# EAGLE library part FST3253MTCX (library FST3253MTCX)
IC, Fairchild, FST3253MTCX Fairchild Semiconductor FST3253MTCX, Multiplexer/Demultiplexer Dual 4:1 Multiplexer, 4 5.5 V, 16-Pin TSSOP Source: Datasheet <https://componentsearchengine.com/Datasheets/2/FST3253MTCX.pdf>
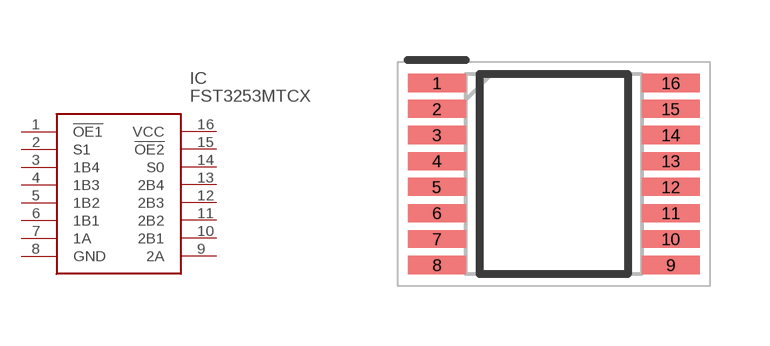
[diagram p0: symbol with the pads of SOP65P640X110-16N; footprint SOP65P640X110-16N]

Designator prefix IC

## FST3253MTCX (Arrow_Part_Number: FST3253MTCX; Arrow_Price-Stock: https://www.arrow.com/en/products/fst3253mtcx/on-semiconductor?region=nac; Description: IC, Fairchild, FST3253MTCX Fairchild Semiconductor FST3253MTCX, Multiplexer/Demultiplexer Dual 4:1 Multiplexer, 4 5.5 V, 16-Pin TSSOP; Height: 1.1mm; Manufacturer_Name: onsemi; Manufacturer_Part_Number: FST3253MTCX; Mouser_Part_Number: 512-FST3253MTCX; Mouser_Price-Stock: https://www.mouser.co.uk/ProductDetail/ON-Semiconductor-Fairchild/FST3253MTCX?qs=9%2FFjV4%2Fi8eqnAjRVZNaJgw%3D%3D)  [SOP65P640X110-16N]
1  !OE1
2  S1
3  1B4
4  1B3
5  1B2
6  1B1
7  1A
8  GND  pwr
9  2A
10  2B1
11  2B2
12  2B3
13  2B4
14  S0
15  !OE2
16  VCC  pwr

## Footprint SOP65P640X110-16N (pad centres in mm)
MTC16 (MO-153)
smd 1.45 x 0.45: 1 -2.925,2.275; 2 -2.925,1.625; 3 -2.925,0.975; 4 -2.925,0.325; 5 -2.925,-0.325; 6 -2.925,-0.975; 7 -2.925,-1.625; 8 -2.925,-2.275; 9 2.925,-2.275; 10 2.925,-1.625; 11 2.925,-0.975; 12 2.925,-0.325; 13 2.925,0.325; 14 2.925,0.975; 15 2.925,1.625; 16 2.925,2.275